# Altium footprint library CAPAE660X770D660L220X65N.PcbLib: 1 footprints
Each footprint in its own frame and in the unit in brackets; x right, y up, seen from the top. Pads: shape width x height; smd on the part's side, far side on the other; paste and mask are expansions set on the pad; w line width, h text height; cw(c..) or ccw(c..) is an arc to the next point about the centre after c.
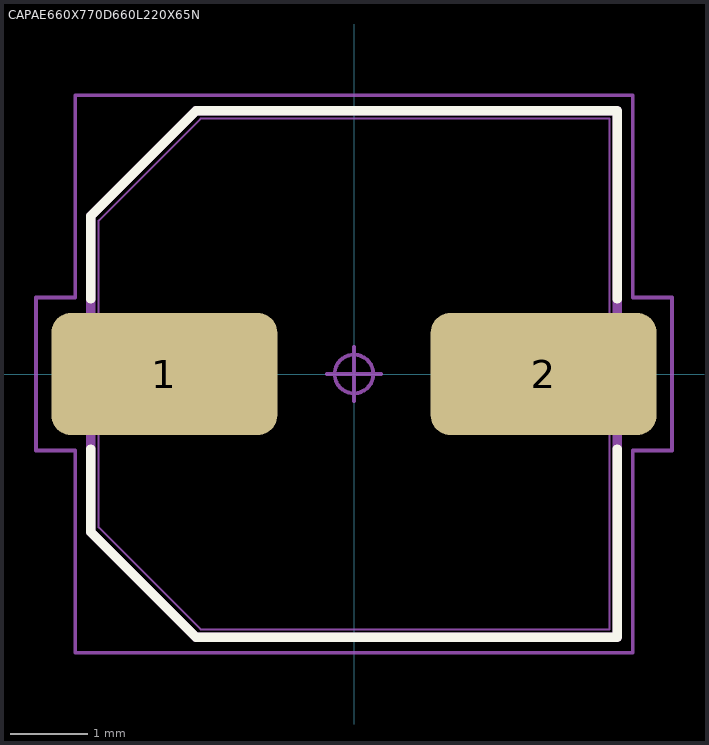
[diagram p0: the footprint, top view; thin cyan lines are the x and y axes]

## CAPAE660X770D660L220X65N [mm] "Capacitor, Aluminum Electrolytic; 6.60 mm L X 6.60 mm W X 7.70 mm H body"
height 7.7
pads (2):
  rrect32% 2.92x1.58 smd: 1(-2.45,0) 2(2.45,0)
Top Overlay:
  lines w0.12: -3.4,-0.97 -3.4,-2.04 -2.04,-3.4 3.4,-3.4 3.4,-0.97 ; -3.4,0.97 -3.4,2.04 -2.04,3.4 3.4,3.4 3.4,0.97
Mechanical 3:
  lines w0.12: -3.4,-2.04 -2.04,-3.4 3.4,-3.4 3.4,3.4 -2.04,3.4 -3.4,2.04 -3.4,-2.04
Mechanical 5:
  lines w0.025: -3.3,-1.98 -1.98,-3.3 3.3,-3.3 3.3,3.3 -1.98,3.3 -3.3,1.98 -3.3,-1.98 ; -3.3,-0.325 -1.1,-0.325 -1.1,0.325 -3.3,0.325 -3.3,-0.325 ; 1.1,-0.325 1.1,0.325 3.3,0.325 3.3,-0.325 1.1,-0.325
Mechanical 7:
  circle w0.05: c0,0 r0.25
  lines w0.05: -0.35,0 0.35,0 ; 0,-0.35 0,0.35 ; -4.11,-0.99 -4.11,0.99 -3.6,0.99 -3.6,3.6 3.6,3.6 3.6,0.99 4.11,0.99 4.11,-0.99 3.6,-0.99 3.6,-3.6 -3.6,-3.6 -3.6,-0.99 -4.11,-0.99
Mechanical 9:
  text "'.Designator'" at -5.715,-0.381 h1
3D body "CAPAE660X770D660L220X65.STEP": height 7.7, standoff 0, extent -3.3,-3.3 3.3,3.3
3D body: height 0.25, standoff 0, extent -4.11,-3.6 4.11,3.6